# Altium footprint library 2020-01-26_02-46-25.PcbLib: 3 footprints
Each footprint in its own frame and in the unit in brackets; x right, y up, seen from the top. Pads: shape width x height; smd on the part's side, far side on the other; paste and mask are expansions set on the pad; w line width, h text height; cw(c..) or ccw(c..) is an arc to the next point about the centre after c.
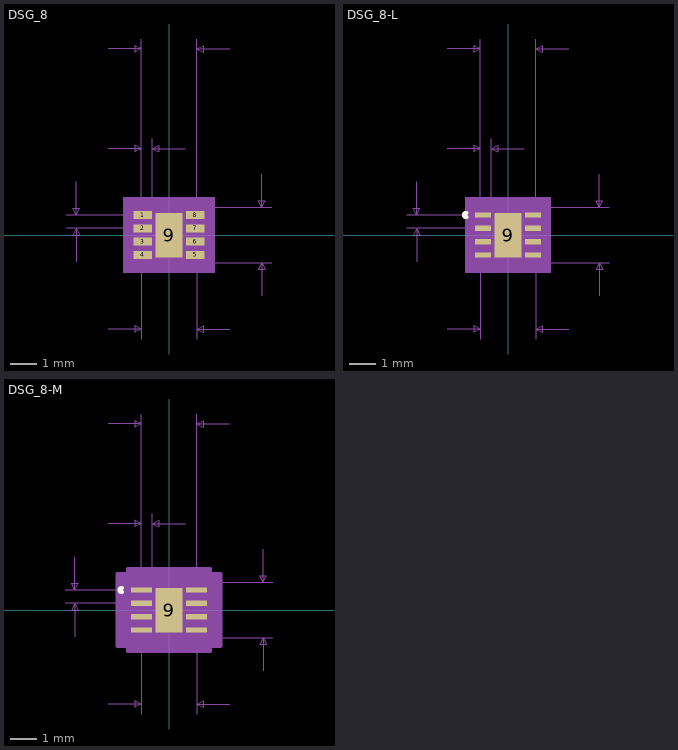
[diagram p0: the footprints below, top view; thin cyan lines are the x and y axes]

## DSG_8 [mil]
pads (9):
  rect 28x12 smd: 1(-39.5,30) 2(-39.5,10) 3(-39.5,-10) 4(-39.5,-30) 5(39.5,-30) 6(39.5,-10) 7(39.5,10) 8(39.5,30)
  rect 40x67 smd paste-33 mask+0: 9(0,0)
Top Paste:
  region: 20,33.5 -20,33.5 -20,-33.5 20,-33.5
Mechanical 5:
  region: 68.5,-56.5 -68.5,-56.5 -68.5,56.5 68.5,56.5
Mechanical 7:
  lines w1: -154.5,10 -39.5,10 ; -154.5,30 -39.5,30 ; -139.5,-40 -139.5,10 ; -139.5,80 -139.5,30 ; -91.5,-141.5 -41.5,-141.5 ; -91.5,130 -41.5,130 ; -91.5,280 -41.5,280 ; -41.5,-156.5 -41.5,-41.5 ; -41.5,145 -41.5,30 -41.5,295 ; -25.5,30 -25.5,145 ; 24.5,130 -25.5,130 ; 41.5,-156.5 41.5,-41.5 154.5,-41.5 ; 41.5,30 41.5,295 ; 41.5,41.5 154.5,41.5 ; 91.5,-141.5 41.5,-141.5 ; 91.5,280 41.5,280 ; 139.5,-91.5 139.5,-41.5 ; 139.5,91.5 139.5,41.5 ; -139.5,10 -144.5,0 -134.5,0 -139.5,10 ; -139.5,30 -144.5,40 -134.5,40 -139.5,30 ; -41.5,-141.5 -51.5,-136.5 -51.5,-146.5 -41.5,-141.5 ; -41.5,130 -51.5,135 -51.5,125 -41.5,130 ; -41.5,280 -51.5,285 -51.5,275 -41.5,280 ; -25.5,130 -15.5,135 -15.5,125 -25.5,130 ; 41.5,-141.5 51.5,-136.5 51.5,-146.5 41.5,-141.5 ; 41.5,280 51.5,285 51.5,275 41.5,280 ; 139.5,-41.5 134.5,-51.5 144.5,-51.5 139.5,-41.5 ; 139.5,41.5 134.5,51.5 144.5,51.5 139.5,41.5
  text "Default Padstyle: RX28Y12D0T" at -350,-411.5 h50
  text "Heat Tab Padstyle: RX40Y67D0T" at -362.5,-471.5 h50
  text "Alt 1 Padstyle: OX60Y90D30P" at -337.5,-591.5 h50
  text "Alt 2 Padstyle: OX90Y60D30P" at -337.5,-651.5 h50
  text "0.083in/2.108mm" at -93.75,300 h25
  text "0.016in/0.406mm" at -127.25,150 h25
  text "0.02in/0.508mm" at -334.5,7.5 h25
  text "0.083in/2.108mm" at 159.5,-12.5 h25
  text "0.083in/2.108mm" at -93.75,-186.5 h25
Mechanical 13:
  lines w1: -41.5,-41.5 41.5,-41.5 41.5,41.5 -41.5,41.5 -41.5,-41.5
Mechanical 15:
  region: -51.5,-42 -63.5,-42 -63.5,42 -51.5,42 -51.5,51.5 51.5,51.5 51.5,42 63.5,42 63.5,-42 51.5,-42 51.5,-51.5 -51.5,-51.5
  lines w6: -63.5,-42 -63.5,42 -51.5,42 -51.5,51.5 51.5,51.5 51.5,42 63.5,42 63.5,-42 51.5,-42 51.5,-51.5 -51.5,-51.5 -51.5,-42 -63.5,-42
3D body: height 10, standoff 0, extent 0,0 10,10

## DSG_8-L [mil]
pads (9):
  rect 24x8 smd paste+0 mask+0: 1(-37.5,30) 2(-37.5,10) 3(-37.5,-10) 4(-37.5,-30) 5(37.5,-30) 6(37.5,-10) 7(37.5,10) 8(37.5,30)
  rect 40x67 smd paste-33 mask+0: 9(0,0)
Top Overlay:
  lines w6: -62.6,27.14 cw(c-63.5,30) -62.6,32.86
Top Paste:
  region: 20,33.5 -20,33.5 -20,-33.5 20,-33.5
Mechanical 5:
  region: 64.5,-56.5 -64.5,-56.5 -64.5,56.5 64.5,56.5
Mechanical 7:
  lines w1: -152.5,10 -37.5,10 ; -152.5,30 -37.5,30 ; -137.5,-40 -137.5,10 ; -137.5,80 -137.5,30 ; -91.5,-141.5 -41.5,-141.5 ; -91.5,130 -41.5,130 ; -91.5,280 -41.5,280 ; -41.5,-156.5 -41.5,-41.5 ; -41.5,145 -41.5,30 -41.5,295 ; -25.5,30 -25.5,145 ; 24.5,130 -25.5,130 ; 41.5,-156.5 41.5,-41.5 152.5,-41.5 ; 41.5,30 41.5,295 ; 41.5,41.5 152.5,41.5 ; 91.5,-141.5 41.5,-141.5 ; 91.5,280 41.5,280 ; 137.5,-91.5 137.5,-41.5 ; 137.5,91.5 137.5,41.5 ; -137.5,10 -142.5,0 -132.5,0 -137.5,10 ; -137.5,30 -142.5,40 -132.5,40 -137.5,30 ; -41.5,-141.5 -51.5,-136.5 -51.5,-146.5 -41.5,-141.5 ; -41.5,130 -51.5,135 -51.5,125 -41.5,130 ; -41.5,280 -51.5,285 -51.5,275 -41.5,280 ; -25.5,130 -15.5,135 -15.5,125 -25.5,130 ; 41.5,-141.5 51.5,-136.5 51.5,-146.5 41.5,-141.5 ; 41.5,280 51.5,285 51.5,275 41.5,280 ; 137.5,-41.5 132.5,-51.5 142.5,-51.5 137.5,-41.5 ; 137.5,41.5 132.5,51.5 142.5,51.5 137.5,41.5
  text "Default Padstyle: RX24Y8D0T" at -337.5,-411.5 h50
  text "Heat Tab Padstyle: RX40Y67D0T" at -362.5,-471.5 h50
  text "Alt 1 Padstyle: OX60Y90D30P" at -337.5,-591.5 h50
  text "Alt 2 Padstyle: OX90Y60D30P" at -337.5,-651.5 h50
  text "0.083in/2.108mm" at -93.75,300 h25
  text "0.016in/0.406mm" at -127.25,150 h25
  text "0.02in/0.508mm" at -332.5,7.5 h25
  text "0.083in/2.108mm" at 157.5,-12.5 h25
  text "0.083in/2.108mm" at -93.75,-186.5 h25
Mechanical 13:
  lines w1: -41.5,-41.5 41.5,-41.5 41.5,41.5 -41.5,41.5 -41.5,-41.5
Mechanical 15:
  region: -45.5,-38 -53.5,-38 -53.5,38 -45.5,38 -45.5,45.5 45.5,45.5 45.5,38 53.5,38 53.5,-38 45.5,-38 45.5,-45.5 -45.5,-45.5
  lines w6: -53.5,-38 -53.5,38 -45.5,38 -45.5,45.5 45.5,45.5 45.5,38 53.5,38 53.5,-38 45.5,-38 45.5,-45.5 -45.5,-45.5 -45.5,-38 -53.5,-38
3D body: height 10, standoff 0, extent 0,0 10,10

## DSG_8-M [mil]
pads (9):
  rect 32x8 smd paste+0 mask+0: 1(-41.5,30) 2(-41.5,10) 3(-41.5,-10) 4(-41.5,-30) 5(41.5,-30) 6(41.5,-10) 7(41.5,10) 8(41.5,30)
  rect 40x67 smd paste-33 mask+0: 9(0,0)
Top Overlay:
  lines w6: -70.6,27.14 cw(c-71.5,30) -70.6,32.86
Top Paste:
  region: 20,33.5 -20,33.5 -20,-33.5 20,-33.5
Mechanical 5:
  region: 72.5,-56.5 -72.5,-56.5 -72.5,56.5 72.5,56.5
Mechanical 7:
  lines w1: -156.5,10 -41.5,10 ; -156.5,30 -41.5,30 ; -141.5,-40 -141.5,10 ; -141.5,80 -141.5,30 ; -91.5,-141.5 -41.5,-141.5 ; -91.5,130 -41.5,130 ; -91.5,280 -41.5,280 ; -41.5,-156.5 -41.5,-41.5 ; -41.5,145 -41.5,30 ; -41.5,295 -41.5,30 ; -25.5,30 -25.5,145 ; 24.5,130 -25.5,130 ; 41.5,-156.5 41.5,-41.5 156.5,-41.5 ; 41.5,30 41.5,295 ; 41.5,41.5 156.5,41.5 ; 91.5,-141.5 41.5,-141.5 ; 91.5,280 41.5,280 ; 141.5,-91.5 141.5,-41.5 ; 141.5,91.5 141.5,41.5 ; -141.5,10 -146.5,0 -136.5,0 -141.5,10 ; -141.5,30 -146.5,40 -136.5,40 -141.5,30 ; -41.5,-141.5 -51.5,-136.5 -51.5,-146.5 -41.5,-141.5 ; -41.5,130 -51.5,135 -51.5,125 -41.5,130 ; -41.5,280 -51.5,285 -51.5,275 -41.5,280 ; -25.5,130 -15.5,135 -15.5,125 -25.5,130 ; 41.5,-141.5 51.5,-136.5 51.5,-146.5 41.5,-141.5 ; 41.5,280 51.5,285 51.5,275 41.5,280 ; 141.5,-41.5 136.5,-51.5 146.5,-51.5 141.5,-41.5 ; 141.5,41.5 136.5,51.5 146.5,51.5 141.5,41.5
  text "Default Padstyle: RX32Y8D0T" at -337.5,-411.5 h50
  text "Heat Tab Padstyle: RX40Y67D0T" at -362.5,-471.5 h50
  text "Alt 1 Padstyle: OX60Y90D30P" at -337.5,-591.5 h50
  text "Alt 2 Padstyle: OX90Y60D30P" at -337.5,-651.5 h50
  text "0.083in/2.108mm" at -93.75,300 h25
  text "0.016in/0.406mm" at -127.25,150 h25
  text "0.02in/0.508mm" at -336.5,7.5 h25
  text "0.083in/2.108mm" at 161.5,-12.5 h25
  text "0.083in/2.108mm" at -93.75,-186.5 h25
Mechanical 13:
  lines w1: -41.5,-41.5 41.5,-41.5 41.5,41.5 -41.5,41.5 -41.5,-41.5
Mechanical 15:
  region: -61.5,-54 -77.5,-54 -77.5,54 -61.5,54 -61.5,61.5 61.5,61.5 61.5,54 77.5,54 77.5,-54 61.5,-54 61.5,-61.5 -61.5,-61.5
  lines w6: -77.5,-54 -77.5,54 -61.5,54 -61.5,61.5 61.5,61.5 61.5,54 77.5,54 77.5,-54 61.5,-54 61.5,-61.5 -61.5,-61.5 -61.5,-54 -77.5,-54
3D body: height 10, standoff 0, extent 0,0 10,10